# Altium footprint library ESC.PcbLib: 6 footprints
Each footprint in its own frame and in the unit in brackets; x right, y up, seen from the top. Pads: shape width x height; smd on the part's side, far side on the other; paste and mask are expansions set on the pad; w line width, h text height; cw(c..) or ccw(c..) is an arc to the next point about the centre after c.
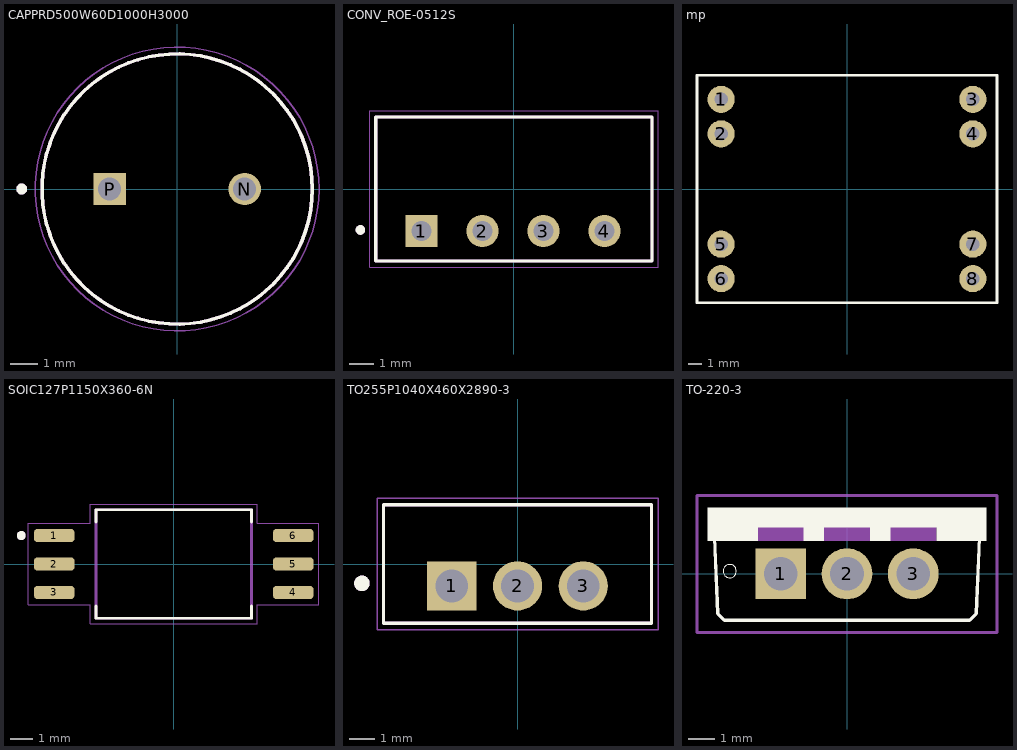
[diagram p0: the footprints below, top view; thin cyan lines are the x and y axes]

## CAPPRD500W60D1000H3000 [mm]
pads (2):
  round 1.2 hole 0.85: N(2.5,0)
  rect 1.2x1.2 hole 0.85: P(-2.5,0)
Top Overlay:
  circle w0.127: c0,0 r5
  circle w0.2: c-5.75,0 r0.1
Mechanical 13:
  circle w0.127: c0,0 r5
  circle w0.2: c-5.75,0 r0.1
Mechanical 15:
  circle w0.05: c0,0 r5.25
3D body "step_temp.STEP": height 30, standoff -17, extent -5,-4.996 5,4.996

## CONV_ROE-0512S [mm]
pads (4):
  rect 1.338x1.338 hole 0.83: 1(-3.85,-1.75)
  round 1.338 hole 0.83: 2(-1.31,-1.75) 3(1.23,-1.75) 4(3.77,-1.75)
Top Overlay:
  circle w0.2: c-6.39,-1.705 r0.1
  lines w0.127: -5.75,-3 -5.75,3 5.75,3 5.75,-3 -5.75,-3
Mechanical 13:
  circle w0.2: c-6.39,-1.705 r0.1
  lines w0.127: -5.75,-3 -5.75,3 5.75,3 5.75,-3 -5.75,-3
Mechanical 15:
  lines w0.05: -6,-3.25 -6,3.25 6,3.25 6,-3.25 -6,-3.25
3D body "ROE-0512S--3DModel-STEP-1.STEP": height 10.35, standoff -3.75, extent -5.75,-3 5.75,3

## mp [mm]
pads (8):
  round 2 hole 1: 1(-9.271,6.604) 2(-9.271,4.064) 3(9.271,6.604) 4(9.271,4.064) 5(-9.271,-4.064) 6(-9.271,-6.604) 7(9.271,-4.064) 8(9.271,-6.604)
Top Overlay:
  lines w0.2: -11.049,-8.382 11.049,-8.382 11.049,8.382 -11.049,8.382 -11.049,-8.382
3D body "User Library-MP1584EN.STEP": height 8, standoff -4.64, extent -11.078,-8.491 10.922,8.509

## SOIC127P1150X360-6N [mm]
pads (6):
  rrect50% 1.8x0.59 smd: 1(-5.33,1.27) 2(-5.33,0) 3(-5.33,-1.27) 4(5.33,-1.27) 5(5.33,0) 6(5.33,1.27)
Top Overlay:
  circle w0.2: c-6.8,1.27 r0.1
  lines w0.127: -3.47,-1.873 -3.47,-2.42 3.47,-2.42 3.47,-1.873 ; -3.47,1.873 -3.47,2.42 3.47,2.42 3.47,1.873
Mechanical 13:
  circle w0.2: c-6.8,1.27 r0.1
  lines w0.127: -3.47,-2.42 3.47,-2.42 3.47,2.42 -3.47,2.42 -3.47,-2.42
Mechanical 15:
  lines w0.05: -6.48,-1.82 -3.72,-1.82 -3.72,-2.67 3.72,-2.67 3.72,-1.82 6.48,-1.82 6.48,1.82 3.72,1.82 3.72,2.67 -3.72,2.67 -3.72,1.82 -6.48,1.82 -6.48,-1.82
3D body "User Library-SO-6_Stretched.STEP": height 3.18, standoff 0.01, extent -4.85,-2.286 4.85,2.294

## TO255P1040X460X2890-3 [mm]
pads (3):
  rect 1.91x1.91 hole 1.27: 1(-2.55,-0.85)
  round 1.91 hole 1.27: 2(0,-0.85) 3(2.55,-0.85)
Top Overlay:
  circle w0.3: c-6.04,-0.75 r0.15
  lines w0.127: -5.2,-2.3 5.2,-2.3 5.2,2.3 -5.2,2.3 -5.2,-2.3
Mechanical 13:
  circle w0.3: c-6.04,-0.75 r0.15
  lines w0.127: -5.2,-2.3 -5.2,2.3 5.2,2.3 5.2,-2.3 -5.2,-2.3
Mechanical 15:
  lines w0.05: -5.45,-2.55 -5.45,2.55 5.45,2.55 5.45,-2.55 -5.45,-2.55
3D body "L7805CV-DG.STEP": height 23.77, standoff -5.13, extent -5.1,-2.413 5.1,2.187

## TO-220-3 [mm]
pads (3):
  rect 1.95x1.95 hole 1.3: 1(-2.54,0)
  round 1.95 hole 1.3: 2(0,0) 3(2.54,0)
Top Overlay:
  circle w0: c-4.496,0.102 r0.254
  region: 5.334,1.781 -5.344,1.781 -5.344,2.54 5.334,2.54
  region: -3.429,1.272 -5.344,1.272 -5.344,1.778 -3.429,1.778
  region: -0.889,1.272 -1.654,1.272 -1.654,1.778 -0.889,1.778
  region: 1.651,1.271 0.89,1.271 0.89,1.778 1.651,1.778
  region: 5.334,1.272 3.433,1.272 3.433,1.778 5.334,1.778
  lines w0.127: -5.08,1.397 -4.953,-1.524 -4.699,-1.778 4.699,-1.778 4.953,-1.524 5.08,1.397
Mechanical 13:
  region: -1.651,1.271 -3.432,1.271 -3.432,1.778 -1.651,1.778
  region: 0.889,1.271 -0.889,1.271 -0.889,1.778 0.889,1.778
  region: 3.429,1.272 1.653,1.272 1.653,1.778 3.429,1.778
Mechanical 15:
  lines w0.127: -5.75,-2.25 5.75,-2.25 5.75,3 -5.75,3 -5.75,-2.25
3D body "IRF520NPBF.STEP": height 24.89, standoff -6.35, extent -5.08,-1.477 5.08,2.718